# EAGLE library part TI8077 (library balmer)
LCD Display
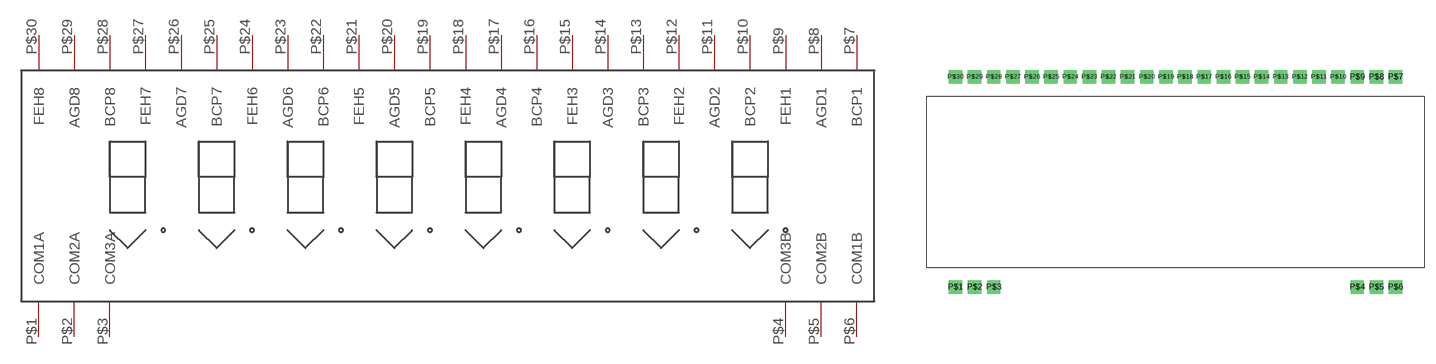
[diagram p11: symbol with the pads of TI8077; footprint TI8077]

Designator prefix -

## TI8077  [TI8077]
P$1  COM1A
P$2  COM2A
P$3  COM3A
P$4  COM3B
P$5  COM2B
P$6  COM1B
P$7  BCP1
P$8  AGD1
P$9  FEH1
P$10  BCP2
P$11  AGD2
P$12  FEH2
P$13  BCP3
P$14  AGD3
P$15  FEH3
P$16  BCP4
P$17  AGD4
P$18  FEH4
P$19  BCP5
P$20  AGD5
P$21  FEH5
P$22  BCP6
P$23  AGD6
P$24  FEH6
P$25  BCP7
P$26  AGD7
P$27  FEH7
P$28  BCP8
P$29  AGD8
P$30  FEH8

## Footprint TI8077 (pad centres in mm)
LCD Display
drill 0.8 pad 1.778 square: P$1 -27.94,-13.97; P$2 -25.4,-13.97; P$3 -22.86,-13.97; P$4 25.4,-13.97; P$5 27.94,-13.97; P$6 30.48,-13.97; P$7 30.48,13.97; P$8 27.94,13.97; P$9 25.4,13.97; P$10 22.86,13.97; P$11 20.32,13.97; P$12 17.78,13.97; P$13 15.24,13.97; P$14 12.7,13.97; P$15 10.16,13.97; P$16 7.62,13.97; P$17 5.08,13.97; P$18 2.54,13.97; P$19 0,13.97; P$20 -2.54,13.97; P$21 -5.08,13.97; P$22 -7.62,13.97; P$23 -10.16,13.97; P$24 -12.7,13.97; P$25 -15.24,13.97; P$26 -17.78,13.97; P$27 -20.32,13.97; P$28 -22.86,13.97; P$29 -25.4,13.97; P$30 -27.94,13.97